# Altium integrated library TI Data Converters Analog to Digital Converter.IntLib: 2197 symbols (part 51 of 168)
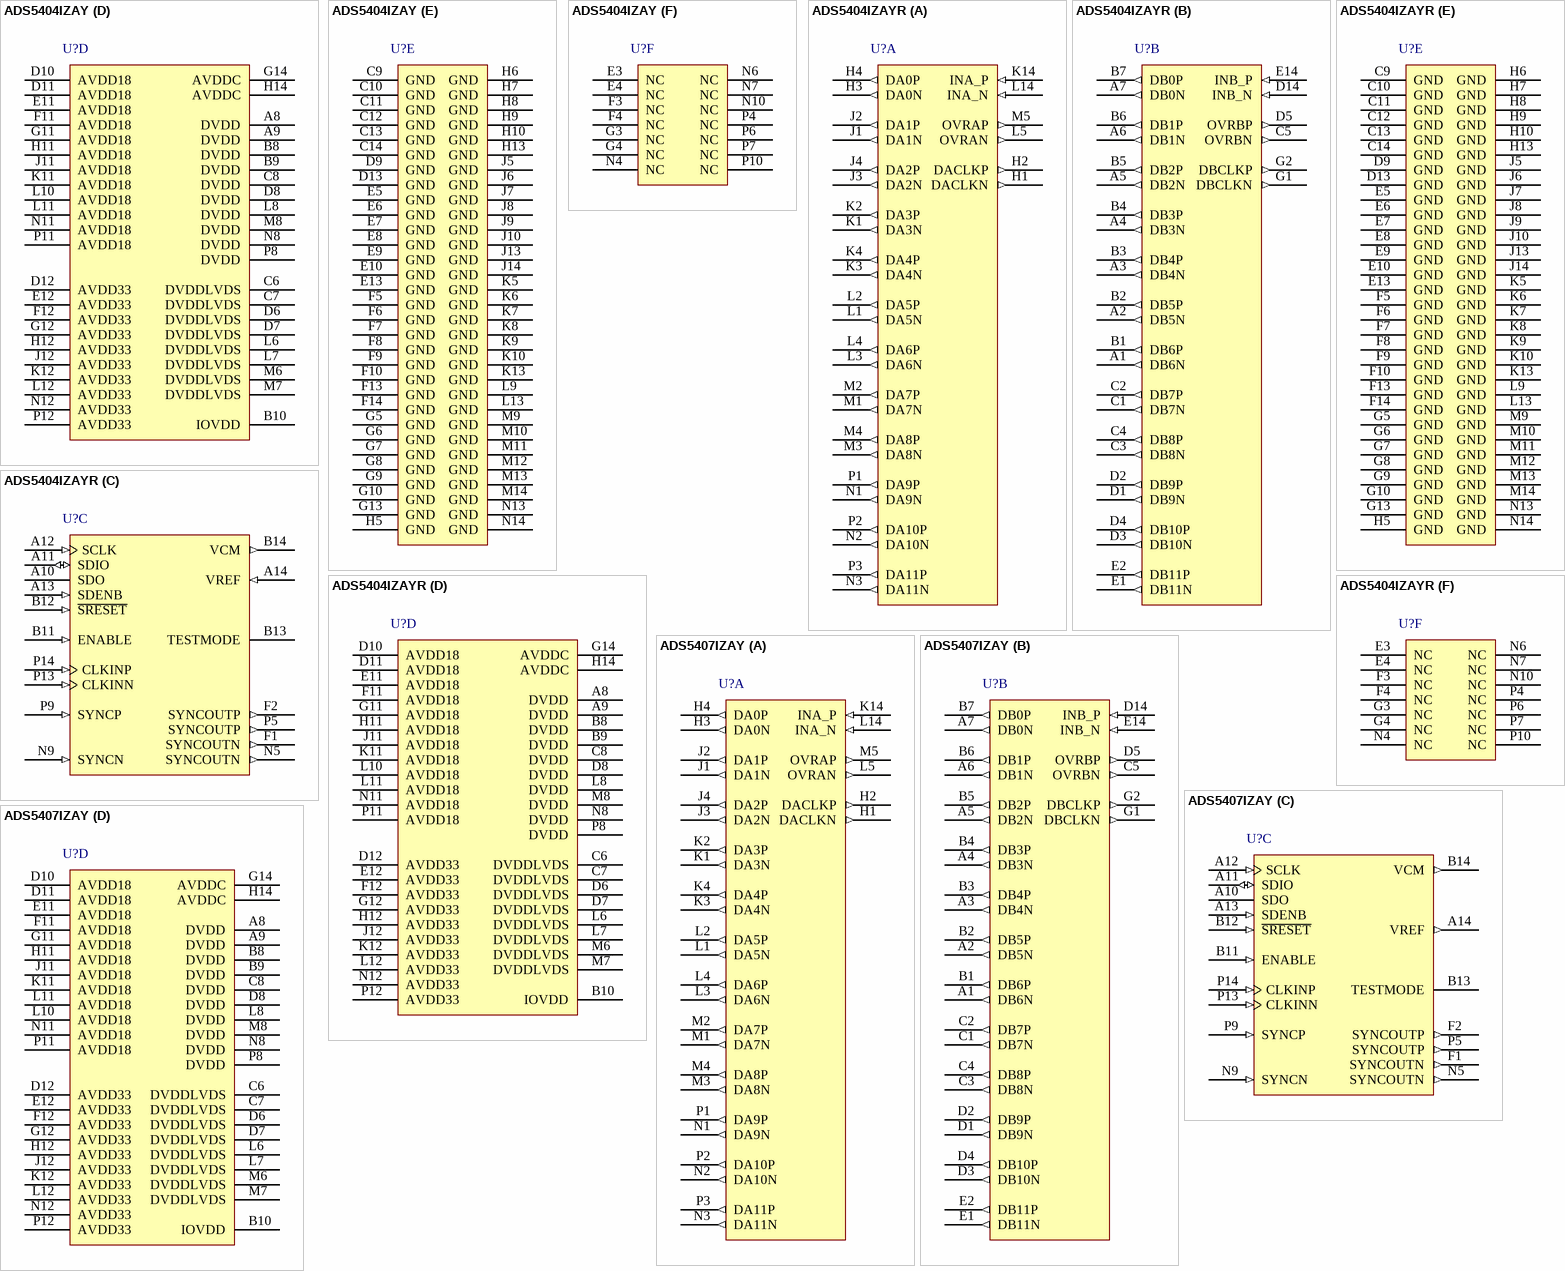
[diagram p176: symbols ADS5404IZAY to ADS5407IZAY]

## ADS5404IZAY
designator U?
Dual Channel 12-Bit 500 MSPS ADC, -40 to 85 degC, 196-pin BGA (ZAY196), Green (RoHS & no Sb/Br); Manufacturer: Texas Instruments; PartNumber: ADS5404IZAY; # Input Channels: 2; Analog Voltage AV/DD(Max)(V): 3.45; Analog Voltage AV/DD(Min)(V): 3.15; Architecture: Pipeline; Digital Supply(Max)(V): 1.9; Digital Supply(Min)(V): 1.7; ENOB(Bits): 9.8; INL(Max)(+/-LSB): 5; Interface: DDR LVDS; Resolution(Bits): 12; Sample Rate(max)(SPS): 500M; SFDR(dB): 77; SINAD(dB): 60.5; SNR(dB): 60.6; SubFamily: High Speed ADC (>10MSPS); DatasheetVersion: SLAS945; PackageVersion: 4208324-4/C, 09/2010; PackageReference: ZAY196; PackageDescription: 196-Pin Plastic Ball Grid Array, Body 12 x 12 mm, Pitch 0.8 mm; Supplier 1: Digi-Key; Supplier Part Number 1: THS1206IDARG4-ND; Supplier 2: Mouser; Supplier Part Number 2: 595-THS1206IDARG4; Eco-Plan: Green (RoHS & no Sb/Br); Mounting Technology: Surface Mount; ComponentLink1Description: Manufacturer URL; ComponentLink1URL: http://www.ti.com/; ComponentLink2Description: Datasheet; ComponentLink2URL: http://www.ti.com/lit/ds/symlink/ads5404.pdf; ComponentLink3Description: Package Specification; ComponentLink3URL: http://www.ti.com/litv/pdf/mpbga11
footprint TI-ZAY196 (BGA, 196-Balls, Body 12x12mm, Pitch 0.8mm)
part A pins: H1 DACLKN (out) "DDR differential output data clock for Bus A. Register programmable to provide either rising or falling edge to center of stable data nominal timing.", H2 DACLKP (out) "DDR differential output data clock for Bus A. Register programmable to provide either rising or falling edge to center of stable data nominal timing.", H3 DA0N (out) "ADC A Data Bits 11 (MSB) to 0 (LSB) in DDR output mode. Standard LVDS output.", H4 DA0P (out) "ADC A Data Bits 11 (MSB) to 0 (LSB) in DDR output mode. Standard LVDS output.", J1 DA1N (out) "ADC A Data Bits 11 (MSB) to 0 (LSB) in DDR output mode. Standard LVDS output.", J2 DA1P (out) "ADC A Data Bits 11 (MSB) to 0 (LSB) in DDR output mode. Standard LVDS output.", J3 DA2N (out) "ADC A Data Bits 11 (MSB) to 0 (LSB) in DDR output mode. Standard LVDS output.", J4 DA2P (out) "ADC A Data Bits 11 (MSB) to 0 (LSB) in DDR output mode. Standard LVDS output.", K1 DA3N (out) "ADC A Data Bits 11 (MSB) to 0 (LSB) in DDR output mode. Standard LVDS output.", K2 DA3P (out) "ADC A Data Bits 11 (MSB) to 0 (LSB) in DDR output mode. Standard LVDS output.", K3 DA4N (out) "ADC A Data Bits 11 (MSB) to 0 (LSB) in DDR output mode. Standard LVDS output.", K4 DA4P (out) "ADC A Data Bits 11 (MSB) to 0 (LSB) in DDR output mode. Standard LVDS output.", K14 INA_P (in) "Analog ADC A differential input signal.", L1 DA5N (out) "ADC A Data Bits 11 (MSB) to 0 (LSB) in DDR output mode. Standard LVDS output.", L2 DA5P (out) "ADC A Data Bits 11 (MSB) to 0 (LSB) in DDR output mode. Standard LVDS output.", L3 DA6N (out) "ADC A Data Bits 11 (MSB) to 0 (LSB) in DDR output mode. Standard LVDS output.", L4 DA6P (out) "ADC A Data Bits 11 (MSB) to 0 (LSB) in DDR output mode. Standard LVDS output.", L5 OVRAN (out) "Bus A, Overrange indicator, LVDS output. A logic high signals an analog input in excess of the full-scale range. Optional SYNC output.", L14 INA_N (in) "Analog ADC A differential input signal.", M1 DA7N (out) "ADC A Data Bits 11 (MSB) to 0 (LSB) in DDR output mode. Standard LVDS output.", M2 DA7P (out) "ADC A Data Bits 11 (MSB) to 0 (LSB) in DDR output mode. Standard LVDS output.", M3 DA8N (out) "ADC A Data Bits 11 (MSB) to 0 (LSB) in DDR output mode. Standard LVDS output.", M4 DA8P (out) "ADC A Data Bits 11 (MSB) to 0 (LSB) in DDR output mode. Standard LVDS output.", M5 OVRAP (out) "Bus A, Overrange indicator, LVDS output. A logic high signals an analog input in excess of the full-scale range. Optional SYNC output.", N1 DA9N (out) "ADC A Data Bits 11 (MSB) to 0 (LSB) in DDR output mode. Standard LVDS output.", N2 DA10N (out) "ADC A Data Bits 11 (MSB) to 0 (LSB) in DDR output mode. Standard LVDS output.", N3 DA11N (out) "ADC A Data Bits 11 (MSB) to 0 (LSB) in DDR output mode. Standard LVDS output.", P1 DA9P (out) "ADC A Data Bits 11 (MSB) to 0 (LSB) in DDR output mode. Standard LVDS output.", P2 DA10P (out) "ADC A Data Bits 11 (MSB) to 0 (LSB) in DDR output mode. Standard LVDS output.", P3 DA11P (out) "ADC A Data Bits 11 (MSB) to 0 (LSB) in DDR output mode. Standard LVDS output."
part B pins: A1 DB6N (out) "ADC B Data Bits 11 (MSB) to 0 (LSB) in DDR output mode. Standard LVDS output.", A2 DB5N (out) "ADC B Data Bits 11 (MSB) to 0 (LSB) in DDR output mode. Standard LVDS output.", A3 DB4N (out) "ADC B Data Bits 11 (MSB) to 0 (LSB) in DDR output mode. Standard LVDS output.", A4 DB3N (out) "ADC B Data Bits 11 (MSB) to 0 (LSB) in DDR output mode. Standard LVDS output.", A5 DB2N (out) "ADC B Data Bits 11 (MSB) to 0 (LSB) in DDR output mode. Standard LVDS output.", A6 DB1N (out) "ADC B Data Bits 11 (MSB) to 0 (LSB) in DDR output mode. Standard LVDS output.", A7 DB0N (out) "ADC B Data Bits 11 (MSB) to 0 (LSB) in DDR output mode. Standard LVDS output.", B1 DB6P (out) "ADC B Data Bits 11 (MSB) to 0 (LSB) in DDR output mode. Standard LVDS output.", B2 DB5P (out) "ADC B Data Bits 11 (MSB) to 0 (LSB) in DDR output mode. Standard LVDS output.", B3 DB4P (out) "ADC B Data Bits 11 (MSB) to 0 (LSB) in DDR output mode. Standard LVDS output.", B4 DB3P (out) "ADC B Data Bits 11 (MSB) to 0 (LSB) in DDR output mode. Standard LVDS output.", B5 DB2P (out) "ADC B Data Bits 11 (MSB) to 0 (LSB) in DDR output mode. Standard LVDS output.", B6 DB1P (out) "ADC B Data Bits 11 (MSB) to 0 (LSB) in DDR output mode. Standard LVDS output.", B7 DB0P (out) "ADC B Data Bits 11 (MSB) to 0 (LSB) in DDR output mode. Standard LVDS output.", C1 DB7N (out) "ADC B Data Bits 11 (MSB) to 0 (LSB) in DDR output mode. Standard LVDS output.", C2 DB7P (out) "ADC B Data Bits 11 (MSB) to 0 (LSB) in DDR output mode. Standard LVDS output.", C3 DB8N (out) "ADC B Data Bits 11 (MSB) to 0 (LSB) in DDR output mode. Standard LVDS output.", C4 DB8P (out) "ADC B Data Bits 11 (MSB) to 0 (LSB) in DDR output mode. Standard LVDS output.", C5 OVRBN (out) "Bus B, Overrange indicator, LVDS output. A logic high signals an analog input in excess of the full-scale range. Optional SYNC output.", D1 DB9N (out) "ADC B Data Bits 11 (MSB) to 0 (LSB) in DDR output mode. Standard LVDS output.", D2 DB9P (out) "ADC B Data Bits 11 (MSB) to 0 (LSB) in DDR output mode. Standard LVDS output.", D3 DB10N (out) "ADC B Data Bits 11 (MSB) to 0 (LSB) in DDR output mode. Standard LVDS output.", D4 DB10P (out) "ADC B Data Bits 11 (MSB) to 0 (LSB) in DDR output mode. Standard LVDS output.", D5 OVRBP (out) "Bus B, Overrange indicator, LVDS output. A logic high signals an analog input in excess of the full-scale range. Optional SYNC output.", D14 INB_N (in) "Analog ADC B differential input signal.", E1 DB11N (out) "ADC B Data Bits 11 (MSB) to 0 (LSB) in DDR output mode. Standard LVDS output.", E2 DB11P (out) "ADC B Data Bits 11 (MSB) to 0 (LSB) in DDR output mode. Standard LVDS output.", E14 INB_P (in) "Analog ADC B differential input signal.", G1 DBCLKN (out) "DDR differential output data clock for Bus B. Register programmable to provide either rising or falling edge to center of stable data nominal timing. Optionally Bus B can be latched with DACLKP/N.", G2 DBCLKP (out) "DDR differential output data clock for Bus B. Register programmable to provide either rising or falling edge to center of stable data nominal timing. Optionally Bus B can be latched with DACLKP/N."
part C pins: A10 SDO (hiz) "Uni-directional serial interface data in 4 pin mode (register x00, D16). The SDO pin is tri- stated in 3-pin interface mode (default). Internal 50kohm pull-down resistor.", A11 SDIO (io) "Bi-directional serial data in 3 pin mode (default). In 4-pin interface mode (register x00, D16), the SDIO pin in an input only. Internal 50kohm pull-down.", A12 SCLK (in) "Serial interface clock. Internal 50kohm pull-down resistor.", A13 SDENB (in) "Serial interface enable. Internal 50kohm pull-down resistor.", A14 VREF (in) "Reference voltage input. A 0.1uF capacitor to AGND is recommended, but not required.", B11 ENABLE (in) "Chip enable - active high. Power down function can be controlled through SPI register assignment. Internal 50kohm pull up resistor to IOVDD.", B12 ~{SRESET} (in) "Serial interface reset input. Active low. Initialized internal registers during high to low transition. Asynchronous. Internal 50kohm pull up resistor to IOVDD.", B13 TESTMODE "Factory internal test, do not connect", B14 VCM (out) "Output of the analog input common mode (nominally 1.9V). A 0.1uF capacitor to AGND is recommended.", F1 SYNCOUTN (out) "Synchronization output signal for synchronizing multiple ADCs. Can be disabled via SPI.", F2 SYNCOUTP (out) "Synchronization output signal for synchronizing multiple ADCs. Can be disabled via SPI.", N5 SYNCOUTN (out) "Synchronization output signal for synchronizing multiple ADCs. Can be disabled via SPI.", N9 SYNCN (in) "Synchronization input. Inactive if logic low. When clocked in a high state initially, this is used for resetting internal clocks and digital logic and starting the SYNCOUT signal. Internal 100ohm termination.", P5 SYNCOUTP (out) "Synchronization output signal for synchronizing multiple ADCs. Can be disabled via SPI.", P9 SYNCP (in) "Synchronization input. Inactive if logic low. When clocked in a high state initially, this is used for resetting internal clocks and digital logic and starting the SYNCOUT signal. Internal 100ohm termination.", P13 CLKINN (in) "Differential input clock", P14 CLKINP (in) "Differential input clock"
part D pins: A8 DVDD (power) "1.8V supply for digital block", A9 DVDD (power) "1.8V supply for digital block", B8 DVDD (power) "1.8V supply for digital block", B9 DVDD (power) "1.8V supply for digital block", B10 IOVDD (power) "1.8V for digital I/Os", C6 DVDDLVDS (power) "1.8V supply for LVDS outputs", C7 DVDDLVDS (power) "1.8V supply for LVDS outputs", C8 DVDD (power) "1.8V supply for digital block", D6 DVDDLVDS (power) "1.8V supply for LVDS outputs", D7 DVDDLVDS (power) "1.8V supply for LVDS outputs", D8 DVDD (power) "1.8V supply for digital block", D10 AVDD18 (power) "1.8V analog supply", D11 AVDD18 (power) "1.8V analog supply", D12 AVDD33 (power) "3.3V analog supply", E11 AVDD18 (power) "1.8V analog supply", E12 AVDD33 (power) "3.3V analog supply", F11 AVDD18 (power) "1.8V analog supply", F12 AVDD33 (power) "3.3V analog supply", G11 AVDD18 (power) "1.8V analog supply", G12 AVDD33 (power) "3.3V analog supply", G14 AVDDC (power) "1.8V supply for clock input", H11 AVDD18 (power) "1.8V analog supply", H12 AVDD33 (power) "3.3V analog supply", H14 AVDDC (power) "1.8V supply for clock input", J11 AVDD18 (power) "1.8V analog supply", J12 AVDD33 (power) "3.3V analog supply", K11 AVDD18 (power) "1.8V analog supply", K12 AVDD33 (power) "3.3V analog supply", L6 DVDDLVDS (power) "1.8V supply for LVDS outputs", L7 DVDDLVDS (power) "1.8V supply for LVDS outputs", L8 DVDD (power) "1.8V supply for digital block", L10 AVDD18 (power) "1.8V analog supply", L11 AVDD18 (power) "1.8V analog supply", L12 AVDD33 (power) "3.3V analog supply", M6 DVDDLVDS (power) "1.8V supply for LVDS outputs", M7 DVDDLVDS (power) "1.8V supply for LVDS outputs", M8 DVDD (power) "1.8V supply for digital block", N8 DVDD (power) "1.8V supply for digital block", N11 AVDD18 (power) "1.8V analog supply", N12 AVDD33 (power) "3.3V analog supply", P8 DVDD (power) "1.8V supply for digital block", P11 AVDD18 (power) "1.8V analog supply", P12 AVDD33 (power) "3.3V analog supply"
part E pins: C9 GND (power) "Ground", C10 GND (power) "Ground", C11 GND (power) "Ground", C12 GND (power) "Ground", C13 GND (power) "Ground", C14 GND (power) "Ground", D9 GND (power) "Ground", D13 GND (power) "Ground", E5 GND (power) "Ground", E6 GND (power) "Ground", E7 GND (power) "Ground", E8 GND (power) "Ground", E9 GND (power) "Ground", E10 GND (power) "Ground", E13 GND (power) "Ground", F5 GND (power) "Ground", F6 GND (power) "Ground", F7 GND (power) "Ground", F8 GND (power) "Ground", F9 GND (power) "Ground", F10 GND (power) "Ground", F13 GND (power) "Ground", F14 GND (power) "Ground", G5 GND (power) "Ground", G6 GND (power) "Ground", G7 GND (power) "Ground", G8 GND (power) "Ground", G9 GND (power) "Ground", G10 GND (power) "Ground", G13 GND (power) "Ground", H5 GND (power) "Ground", H6 GND (power) "Ground", H7 GND (power) "Ground", H8 GND (power) "Ground", H9 GND (power) "Ground", H10 GND (power) "Ground", H13 GND (power) "Ground", J5 GND (power) "Ground", J6 GND (power) "Ground", J7 GND (power) "Ground", J8 GND (power) "Ground", J9 GND (power) "Ground", J10 GND (power) "Ground", J13 GND (power) "Ground", J14 GND (power) "Ground", K5 GND (power) "Ground", K6 GND (power) "Ground", K7 GND (power) "Ground", K8 GND (power) "Ground", K9 GND (power) "Ground", K10 GND (power) "Ground", K13 GND (power) "Ground", L9 GND (power) "Ground", L13 GND (power) "Ground", M9 GND (power) "Ground", M10 GND (power) "Ground", M11 GND (power) "Ground", M12 GND (power) "Ground", M13 GND (power) "Ground", M14 GND (power) "Ground", N13 GND (power) "Ground", N14 GND (power) "Ground"
part F pins: E3 NC "Don’t connect to pin", E4 NC "Don’t connect to pin", F3 NC "Don’t connect to pin", F4 NC "Don’t connect to pin", G3 NC "Don’t connect to pin", G4 NC "Don’t connect to pin", N4 NC "Don’t connect to pin", N6 NC "Don’t connect to pin", N7 NC "Don’t connect to pin", N10 NC "Don’t connect to pin", P4 NC "Don’t connect to pin", P6 NC "Don’t connect to pin", P7 NC "Don’t connect to pin", P10 NC "Don’t connect to pin"

## ADS5404IZAYR
designator U?
Dual Channel 12-Bit 500 MSPS ADC, -40 to 85 degC, 196-pin BGA (ZAY196), Green (RoHS & no Sb/Br); Manufacturer: Texas Instruments; PartNumber: ADS5404IZAYR; # Input Channels: 2; Analog Voltage AV/DD(Max)(V): 3.45; Analog Voltage AV/DD(Min)(V): 3.15; Architecture: Pipeline; Digital Supply(Max)(V): 1.9; Digital Supply(Min)(V): 1.7; ENOB(Bits): 9.8; INL(Max)(+/-LSB): 5; Interface: DDR LVDS; Resolution(Bits): 12; Sample Rate(max)(SPS): 500M; SFDR(dB): 77; SINAD(dB): 60.5; SNR(dB): 60.6; SubFamily: High Speed ADC (>10MSPS); DatasheetVersion: SLAS945; PackageVersion: 4208324-4/C, 09/2010; PackageReference: ZAY196; PackageDescription: 196-Pin Plastic Ball Grid Array, Body 12 x 12 mm, Pitch 0.8 mm; Supplier 1: Digi-Key; Supplier Part Number 1: THS1206QDA-ND; Supplier 2: Mouser; Supplier Part Number 2: 595-THS1206QDA; Eco-Plan: Green (RoHS & no Sb/Br); Mounting Technology: Surface Mount; ComponentLink1Description: Manufacturer URL; ComponentLink1URL: http://www.ti.com/; ComponentLink2Description: Datasheet; ComponentLink2URL: http://www.ti.com/lit/ds/symlink/ads5404.pdf; ComponentLink3Description: Package Specification; ComponentLink3URL: http://www.ti.com/litv/pdf/mpbga11
footprint TI-ZAY196 (BGA, 196-Balls, Body 12x12mm, Pitch 0.8mm)
part A pins: H1 DACLKN (out) "DDR differential output data clock for Bus A. Register programmable to provide either rising or falling edge to center of stable data nominal timing.", H2 DACLKP (out) "DDR differential output data clock for Bus A. Register programmable to provide either rising or falling edge to center of stable data nominal timing.", H3 DA0N (out) "ADC A Data Bits 11 (MSB) to 0 (LSB) in DDR output mode. Standard LVDS output.", H4 DA0P (out) "ADC A Data Bits 11 (MSB) to 0 (LSB) in DDR output mode. Standard LVDS output.", J1 DA1N (out) "ADC A Data Bits 11 (MSB) to 0 (LSB) in DDR output mode. Standard LVDS output.", J2 DA1P (out) "ADC A Data Bits 11 (MSB) to 0 (LSB) in DDR output mode. Standard LVDS output.", J3 DA2N (out) "ADC A Data Bits 11 (MSB) to 0 (LSB) in DDR output mode. Standard LVDS output.", J4 DA2P (out) "ADC A Data Bits 11 (MSB) to 0 (LSB) in DDR output mode. Standard LVDS output.", K1 DA3N (out) "ADC A Data Bits 11 (MSB) to 0 (LSB) in DDR output mode. Standard LVDS output.", K2 DA3P (out) "ADC A Data Bits 11 (MSB) to 0 (LSB) in DDR output mode. Standard LVDS output.", K3 DA4N (out) "ADC A Data Bits 11 (MSB) to 0 (LSB) in DDR output mode. Standard LVDS output.", K4 DA4P (out) "ADC A Data Bits 11 (MSB) to 0 (LSB) in DDR output mode. Standard LVDS output.", K14 INA_P (in) "Analog ADC A differential input signal.", L1 DA5N (out) "ADC A Data Bits 11 (MSB) to 0 (LSB) in DDR output mode. Standard LVDS output.", L2 DA5P (out) "ADC A Data Bits 11 (MSB) to 0 (LSB) in DDR output mode. Standard LVDS output.", L3 DA6N (out) "ADC A Data Bits 11 (MSB) to 0 (LSB) in DDR output mode. Standard LVDS output.", L4 DA6P (out) "ADC A Data Bits 11 (MSB) to 0 (LSB) in DDR output mode. Standard LVDS output.", L5 OVRAN (out) "Bus A, Overrange indicator, LVDS output. A logic high signals an analog input in excess of the full-scale range. Optional SYNC output.", L14 INA_N (in) "Analog ADC A differential input signal.", M1 DA7N (out) "ADC A Data Bits 11 (MSB) to 0 (LSB) in DDR output mode. Standard LVDS output.", M2 DA7P (out) "ADC A Data Bits 11 (MSB) to 0 (LSB) in DDR output mode. Standard LVDS output.", M3 DA8N (out) "ADC A Data Bits 11 (MSB) to 0 (LSB) in DDR output mode. Standard LVDS output.", M4 DA8P (out) "ADC A Data Bits 11 (MSB) to 0 (LSB) in DDR output mode. Standard LVDS output.", M5 OVRAP (out) "Bus A, Overrange indicator, LVDS output. A logic high signals an analog input in excess of the full-scale range. Optional SYNC output.", N1 DA9N (out) "ADC A Data Bits 11 (MSB) to 0 (LSB) in DDR output mode. Standard LVDS output.", N2 DA10N (out) "ADC A Data Bits 11 (MSB) to 0 (LSB) in DDR output mode. Standard LVDS output.", N3 DA11N (out) "ADC A Data Bits 11 (MSB) to 0 (LSB) in DDR output mode. Standard LVDS output.", P1 DA9P (out) "ADC A Data Bits 11 (MSB) to 0 (LSB) in DDR output mode. Standard LVDS output.", P2 DA10P (out) "ADC A Data Bits 11 (MSB) to 0 (LSB) in DDR output mode. Standard LVDS output.", P3 DA11P (out) "ADC A Data Bits 11 (MSB) to 0 (LSB) in DDR output mode. Standard LVDS output."
part B pins: A1 DB6N (out) "ADC B Data Bits 11 (MSB) to 0 (LSB) in DDR output mode. Standard LVDS output.", A2 DB5N (out) "ADC B Data Bits 11 (MSB) to 0 (LSB) in DDR output mode. Standard LVDS output.", A3 DB4N (out) "ADC B Data Bits 11 (MSB) to 0 (LSB) in DDR output mode. Standard LVDS output.", A4 DB3N (out) "ADC B Data Bits 11 (MSB) to 0 (LSB) in DDR output mode. Standard LVDS output.", A5 DB2N (out) "ADC B Data Bits 11 (MSB) to 0 (LSB) in DDR output mode. Standard LVDS output.", A6 DB1N (out) "ADC B Data Bits 11 (MSB) to 0 (LSB) in DDR output mode. Standard LVDS output.", A7 DB0N (out) "ADC B Data Bits 11 (MSB) to 0 (LSB) in DDR output mode. Standard LVDS output.", B1 DB6P (out) "ADC B Data Bits 11 (MSB) to 0 (LSB) in DDR output mode. Standard LVDS output.", B2 DB5P (out) "ADC B Data Bits 11 (MSB) to 0 (LSB) in DDR output mode. Standard LVDS output.", B3 DB4P (out) "ADC B Data Bits 11 (MSB) to 0 (LSB) in DDR output mode. Standard LVDS output.", B4 DB3P (out) "ADC B Data Bits 11 (MSB) to 0 (LSB) in DDR output mode. Standard LVDS output.", B5 DB2P (out) "ADC B Data Bits 11 (MSB) to 0 (LSB) in DDR output mode. Standard LVDS output.", B6 DB1P (out) "ADC B Data Bits 11 (MSB) to 0 (LSB) in DDR output mode. Standard LVDS output.", B7 DB0P (out) "ADC B Data Bits 11 (MSB) to 0 (LSB) in DDR output mode. Standard LVDS output.", C1 DB7N (out) "ADC B Data Bits 11 (MSB) to 0 (LSB) in DDR output mode. Standard LVDS output.", C2 DB7P (out) "ADC B Data Bits 11 (MSB) to 0 (LSB) in DDR output mode. Standard LVDS output.", C3 DB8N (out) "ADC B Data Bits 11 (MSB) to 0 (LSB) in DDR output mode. Standard LVDS output.", C4 DB8P (out) "ADC B Data Bits 11 (MSB) to 0 (LSB) in DDR output mode. Standard LVDS output.", C5 OVRBN (out) "Bus B, Overrange indicator, LVDS output. A logic high signals an analog input in excess of the full-scale range. Optional SYNC output.", D1 DB9N (out) "ADC B Data Bits 11 (MSB) to 0 (LSB) in DDR output mode. Standard LVDS output.", D2 DB9P (out) "ADC B Data Bits 11 (MSB) to 0 (LSB) in DDR output mode. Standard LVDS output.", D3 DB10N (out) "ADC B Data Bits 11 (MSB) to 0 (LSB) in DDR output mode. Standard LVDS output.", D4 DB10P (out) "ADC B Data Bits 11 (MSB) to 0 (LSB) in DDR output mode. Standard LVDS output.", D5 OVRBP (out) "Bus B, Overrange indicator, LVDS output. A logic high signals an analog input in excess of the full-scale range. Optional SYNC output.", D14 INB_N (in) "Analog ADC B differential input signal.", E1 DB11N (out) "ADC B Data Bits 11 (MSB) to 0 (LSB) in DDR output mode. Standard LVDS output.", E2 DB11P (out) "ADC B Data Bits 11 (MSB) to 0 (LSB) in DDR output mode. Standard LVDS output.", E14 INB_P (in) "Analog ADC B differential input signal.", G1 DBCLKN (out) "DDR differential output data clock for Bus B. Register programmable to provide either rising or falling edge to center of stable data nominal timing. Optionally Bus B can be latched with DACLKP/N.", G2 DBCLKP (out) "DDR differential output data clock for Bus B. Register programmable to provide either rising or falling edge to center of stable data nominal timing. Optionally Bus B can be latched with DACLKP/N."
part C pins: A10 SDO (hiz) "Uni-directional serial interface data in 4 pin mode (register x00, D16). The SDO pin is tri- stated in 3-pin interface mode (default). Internal 50kohm pull-down resistor.", A11 SDIO (io) "Bi-directional serial data in 3 pin mode (default). In 4-pin interface mode (register x00, D16), the SDIO pin in an input only. Internal 50kohm pull-down.", A12 SCLK (in) "Serial interface clock. Internal 50kohm pull-down resistor.", A13 SDENB (in) "Serial interface enable. Internal 50kohm pull-down resistor.", A14 VREF (in) "Reference voltage input. A 0.1uF capacitor to AGND is recommended, but not required.", B11 ENABLE (in) "Chip enable - active high. Power down function can be controlled through SPI register assignment. Internal 50kohm pull up resistor to IOVDD.", B12 ~{SRESET} (in) "Serial interface reset input. Active low. Initialized internal registers during high to low transition. Asynchronous. Internal 50kohm pull up resistor to IOVDD.", B13 TESTMODE "Factory internal test, do not connect", B14 VCM (out) "Output of the analog input common mode (nominally 1.9V). A 0.1uF capacitor to AGND is recommended.", F1 SYNCOUTN (out) "Synchronization output signal for synchronizing multiple ADCs. Can be disabled via SPI.", F2 SYNCOUTP (out) "Synchronization output signal for synchronizing multiple ADCs. Can be disabled via SPI.", N5 SYNCOUTN (out) "Synchronization output signal for synchronizing multiple ADCs. Can be disabled via SPI.", N9 SYNCN (in) "Synchronization input. Inactive if logic low. When clocked in a high state initially, this is used for resetting internal clocks and digital logic and starting the SYNCOUT signal. Internal 100ohm termination.", P5 SYNCOUTP (out) "Synchronization output signal for synchronizing multiple ADCs. Can be disabled via SPI.", P9 SYNCP (in) "Synchronization input. Inactive if logic low. When clocked in a high state initially, this is used for resetting internal clocks and digital logic and starting the SYNCOUT signal. Internal 100ohm termination.", P13 CLKINN (in) "Differential input clock", P14 CLKINP (in) "Differential input clock"
part D pins: A8 DVDD (power) "1.8V supply for digital block", A9 DVDD (power) "1.8V supply for digital block", B8 DVDD (power) "1.8V supply for digital block", B9 DVDD (power) "1.8V supply for digital block", B10 IOVDD (power) "1.8V for digital I/Os", C6 DVDDLVDS (power) "1.8V supply for LVDS outputs", C7 DVDDLVDS (power) "1.8V supply for LVDS outputs", C8 DVDD (power) "1.8V supply for digital block", D6 DVDDLVDS (power) "1.8V supply for LVDS outputs", D7 DVDDLVDS (power) "1.8V supply for LVDS outputs", D8 DVDD (power) "1.8V supply for digital block", D10 AVDD18 (power) "1.8V analog supply", D11 AVDD18 (power) "1.8V analog supply", D12 AVDD33 (power) "3.3V analog supply", E11 AVDD18 (power) "1.8V analog supply", E12 AVDD33 (power) "3.3V analog supply", F11 AVDD18 (power) "1.8V analog supply", F12 AVDD33 (power) "3.3V analog supply", G11 AVDD18 (power) "1.8V analog supply", G12 AVDD33 (power) "3.3V analog supply", G14 AVDDC (power) "1.8V supply for clock input", H11 AVDD18 (power) "1.8V analog supply", H12 AVDD33 (power) "3.3V analog supply", H14 AVDDC (power) "1.8V supply for clock input", J11 AVDD18 (power) "1.8V analog supply", J12 AVDD33 (power) "3.3V analog supply", K11 AVDD18 (power) "1.8V analog supply", K12 AVDD33 (power) "3.3V analog supply", L6 DVDDLVDS (power) "1.8V supply for LVDS outputs", L7 DVDDLVDS (power) "1.8V supply for LVDS outputs", L8 DVDD (power) "1.8V supply for digital block", L10 AVDD18 (power) "1.8V analog supply", L11 AVDD18 (power) "1.8V analog supply", L12 AVDD33 (power) "3.3V analog supply", M6 DVDDLVDS (power) "1.8V supply for LVDS outputs", M7 DVDDLVDS (power) "1.8V supply for LVDS outputs", M8 DVDD (power) "1.8V supply for digital block", N8 DVDD (power) "1.8V supply for digital block", N11 AVDD18 (power) "1.8V analog supply", N12 AVDD33 (power) "3.3V analog supply", P8 DVDD (power) "1.8V supply for digital block", P11 AVDD18 (power) "1.8V analog supply", P12 AVDD33 (power) "3.3V analog supply"
part E pins: C9 GND (power) "Ground", C10 GND (power) "Ground", C11 GND (power) "Ground", C12 GND (power) "Ground", C13 GND (power) "Ground", C14 GND (power) "Ground", D9 GND (power) "Ground", D13 GND (power) "Ground", E5 GND (power) "Ground", E6 GND (power) "Ground", E7 GND (power) "Ground", E8 GND (power) "Ground", E9 GND (power) "Ground", E10 GND (power) "Ground", E13 GND (power) "Ground", F5 GND (power) "Ground", F6 GND (power) "Ground", F7 GND (power) "Ground", F8 GND (power) "Ground", F9 GND (power) "Ground", F10 GND (power) "Ground", F13 GND (power) "Ground", F14 GND (power) "Ground", G5 GND (power) "Ground", G6 GND (power) "Ground", G7 GND (power) "Ground", G8 GND (power) "Ground", G9 GND (power) "Ground", G10 GND (power) "Ground", G13 GND (power) "Ground", H5 GND (power) "Ground", H6 GND (power) "Ground", H7 GND (power) "Ground", H8 GND (power) "Ground", H9 GND (power) "Ground", H10 GND (power) "Ground", H13 GND (power) "Ground", J5 GND (power) "Ground", J6 GND (power) "Ground", J7 GND (power) "Ground", J8 GND (power) "Ground", J9 GND (power) "Ground", J10 GND (power) "Ground", J13 GND (power) "Ground", J14 GND (power) "Ground", K5 GND (power) "Ground", K6 GND (power) "Ground", K7 GND (power) "Ground", K8 GND (power) "Ground", K9 GND (power) "Ground", K10 GND (power) "Ground", K13 GND (power) "Ground", L9 GND (power) "Ground", L13 GND (power) "Ground", M9 GND (power) "Ground", M10 GND (power) "Ground", M11 GND (power) "Ground", M12 GND (power) "Ground", M13 GND (power) "Ground", M14 GND (power) "Ground", N13 GND (power) "Ground", N14 GND (power) "Ground"
part F pins: E3 NC "Don’t connect to pin", E4 NC "Don’t connect to pin", F3 NC "Don’t connect to pin", F4 NC "Don’t connect to pin", G3 NC "Don’t connect to pin", G4 NC "Don’t connect to pin", N4 NC "Don’t connect to pin", N6 NC "Don’t connect to pin", N7 NC "Don’t connect to pin", N10 NC "Don’t connect to pin", P4 NC "Don’t connect to pin", P6 NC "Don’t connect to pin", P7 NC "Don’t connect to pin", P10 NC "Don’t connect to pin"

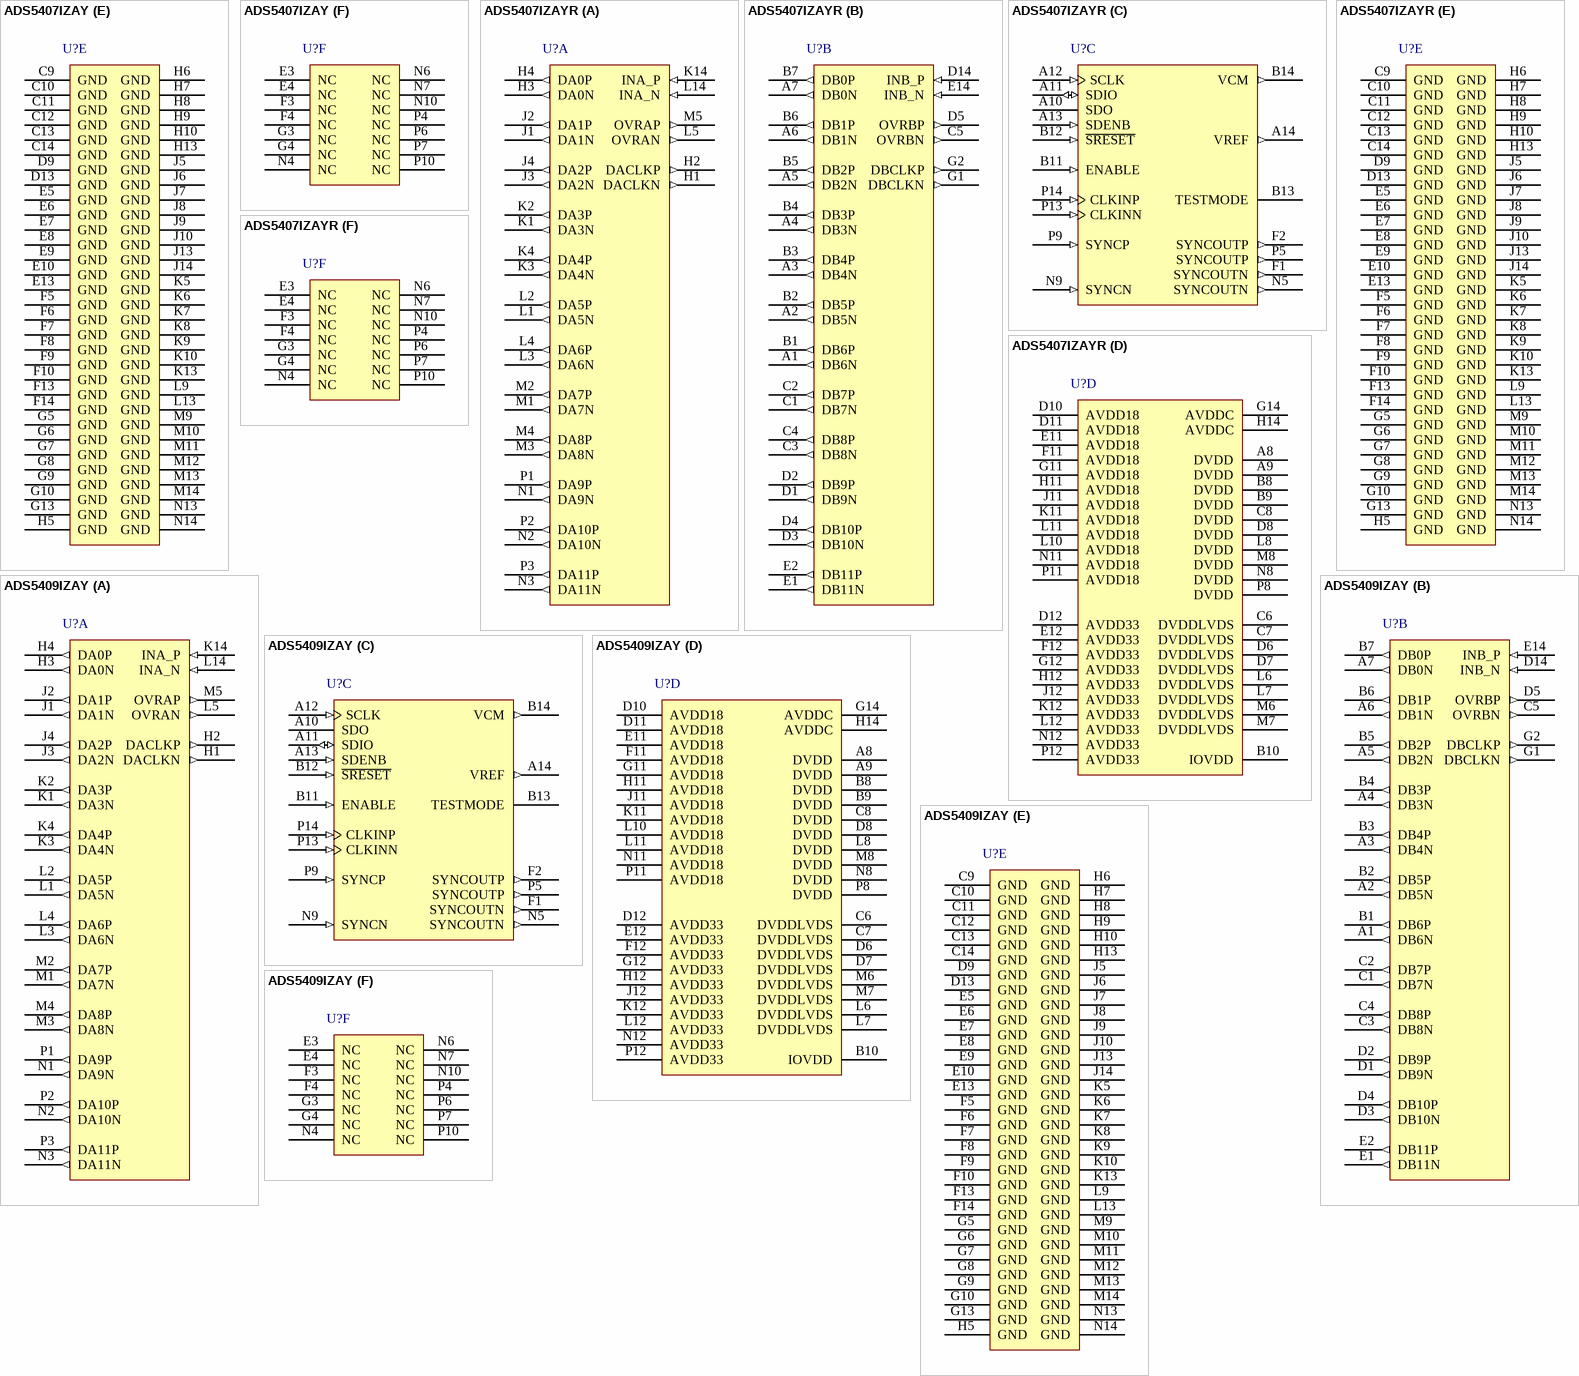
[diagram p49: symbols ADS5407IZAY to ADS5409IZAY]

## ADS5407IZAY
designator U?
Low Power 12-Bit 500 MSPS Dual ADC, -40 to 85 degC, 196-pin BGA (ZAY196), Green (RoHS & no Sb/Br); Manufacturer: Texas Instruments; PartNumber: ADS5407IZAY; # Input Channels: 2; Analog Voltage AV/DD(Max)(V): 3.45; Analog Voltage AV/DD(Min)(V): 3.15; Architecture: Pipeline; Digital Supply(Max)(V): 1.9; Digital Supply(Min)(V): 1.7; ENOB(Bits): 10.2; INL(Max)(+/-LSB): 5; Interface: DDR LVDS; Resolution(Bits): 12; Sample Rate(max)(SPS): 500M; SFDR(dB): 76; SINAD(dB): 63.1; SNR(dB): 63.5; SubFamily: High Speed ADC (>10MSPS); DatasheetVersion: SLAS934; PackageVersion: 4208324-4/C, 09/2010; PackageReference: ZAY196; PackageDescription: 196-Pin Plastic Ball Grid Array, Body 12 x 12 mm, Pitch 0.8 mm; Supplier 1: Digi-Key; Supplier Part Number 1: 296-18365-ND; Supplier 2: Newark; Supplier Part Number 2: 90H0459; Supplier 3: Mouser; Supplier Part Number 3: 595-ADS5413IPHP; Eco-Plan: Green (RoHS & no Sb/Br); Mounting Technology: Surface Mount; ComponentLink1Description: Manufacturer URL; ComponentLink1URL: http://www.ti.com/; ComponentLink2Description: Datasheet; ComponentLink2URL: http://www.ti.com/lit/ds/symlink/ads5407.pdf; ComponentLink3Description: Package Specification; ComponentLink3URL: http://www.ti.com/litv/pdf/mpbga11
footprint TI-ZAY196 (BGA, 196-Balls, Body 12x12mm, Pitch 0.8mm)
part A pins: H1 DACLKN (out) "DDR differential output data clock for Bus A. Register programmable to provide either rising or falling edge to center of stable data nominal timing.", H2 DACLKP (out) "DDR differential output data clock for Bus A. Register programmable to provide either rising or falling edge to center of stable data nominal timing.", H3 DA0N (out) "ADC A Data Bits 11 (MSB) to 0 (LSB) in DDR output mode. Standard LVDS output.", H4 DA0P (out) "ADC A Data Bits 11 (MSB) to 0 (LSB) in DDR output mode. Standard LVDS output.", J1 DA1N (out) "ADC A Data Bits 11 (MSB) to 0 (LSB) in DDR output mode. Standard LVDS output.", J2 DA1P (out) "ADC A Data Bits 11 (MSB) to 0 (LSB) in DDR output mode. Standard LVDS output.", J3 DA2N (out) "ADC A Data Bits 11 (MSB) to 0 (LSB) in DDR output mode. Standard LVDS output.", J4 DA2P (out) "ADC A Data Bits 11 (MSB) to 0 (LSB) in DDR output mode. Standard LVDS output.", K1 DA3N (out) "ADC A Data Bits 11 (MSB) to 0 (LSB) in DDR output mode. Standard LVDS output.", K2 DA3P (out) "ADC A Data Bits 11 (MSB) to 0 (LSB) in DDR output mode. Standard LVDS output.", K3 DA4N (out) "ADC A Data Bits 11 (MSB) to 0 (LSB) in DDR output mode. Standard LVDS output.", K4 DA4P (out) "ADC A Data Bits 11 (MSB) to 0 (LSB) in DDR output mode. Standard LVDS output.", K14 INA_P (in) "Analog ADC A differential input signal.", L1 DA5N (out) "ADC A Data Bits 11 (MSB) to 0 (LSB) in DDR output mode. Standard LVDS output.", L2 DA5P (out) "ADC A Data Bits 11 (MSB) to 0 (LSB) in DDR output mode. Standard LVDS output.", L3 DA6N (out) "ADC A Data Bits 11 (MSB) to 0 (LSB) in DDR output mode. Standard LVDS output.", L4 DA6P (out) "ADC A Data Bits 11 (MSB) to 0 (LSB) in DDR output mode. Standard LVDS output.", L5 OVRAN (out) "Bus A, Overrange indicator, LVDS output. A logic high signals an analog input in excess of the full-scale range. Optional SYNC output.", L14 INA_N (in) "Analog ADC A differential input signal.", M1 DA7N (out) "ADC A Data Bits 11 (MSB) to 0 (LSB) in DDR output mode. Standard LVDS output.", M2 DA7P (out) "ADC A Data Bits 11 (MSB) to 0 (LSB) in DDR output mode. Standard LVDS output.", M3 DA8N (out) "ADC A Data Bits 11 (MSB) to 0 (LSB) in DDR output mode. Standard LVDS output.", M4 DA8P (out) "ADC A Data Bits 11 (MSB) to 0 (LSB) in DDR output mode. Standard LVDS output.", M5 OVRAP (out) "Bus A, Overrange indicator, LVDS output. A logic high signals an analog input in excess of the full-scale range. Optional SYNC output.", N1 DA9N (out) "ADC A Data Bits 11 (MSB) to 0 (LSB) in DDR output mode. Standard LVDS output.", N2 DA10N (out) "ADC A Data Bits 11 (MSB) to 0 (LSB) in DDR output mode. Standard LVDS output.", N3 DA11N (out) "ADC A Data Bits 11 (MSB) to 0 (LSB) in DDR output mode. Standard LVDS output.", P1 DA9P (out) "ADC A Data Bits 11 (MSB) to 0 (LSB) in DDR output mode. Standard LVDS output.", P2 DA10P (out) "ADC A Data Bits 11 (MSB) to 0 (LSB) in DDR output mode. Standard LVDS output.", P3 DA11P (out) "ADC A Data Bits 11 (MSB) to 0 (LSB) in DDR output mode. Standard LVDS output."
part B pins: A1 DB6N (out) "ADC B Data Bits 11 (MSB) to 0 (LSB) in DDR output mode. Standard LVDS output.", A2 DB5N (out) "ADC B Data Bits 11 (MSB) to 0 (LSB) in DDR output mode. Standard LVDS output.", A3 DB4N (out) "ADC B Data Bits 11 (MSB) to 0 (LSB) in DDR output mode. Standard LVDS output.", A4 DB3N (out) "ADC B Data Bits 11 (MSB) to 0 (LSB) in DDR output mode. Standard LVDS output.", A5 DB2N (out) "ADC B Data Bits 11 (MSB) to 0 (LSB) in DDR output mode. Standard LVDS output.", A6 DB1N (out) "ADC B Data Bits 11 (MSB) to 0 (LSB) in DDR output mode. Standard LVDS output.", A7 DB0N (out) "ADC B Data Bits 11 (MSB) to 0 (LSB) in DDR output mode. Standard LVDS output.", B1 DB6P (out) "ADC B Data Bits 11 (MSB) to 0 (LSB) in DDR output mode. Standard LVDS output.", B2 DB5P (out) "ADC B Data Bits 11 (MSB) to 0 (LSB) in DDR output mode. Standard LVDS output.", B3 DB4P (out) "ADC B Data Bits 11 (MSB) to 0 (LSB) in DDR output mode. Standard LVDS output.", B4 DB3P (out) "ADC B Data Bits 11 (MSB) to 0 (LSB) in DDR output mode. Standard LVDS output.", B5 DB2P (out) "ADC B Data Bits 11 (MSB) to 0 (LSB) in DDR output mode. Standard LVDS output.", B6 DB1P (out) "ADC B Data Bits 11 (MSB) to 0 (LSB) in DDR output mode. Standard LVDS output.", B7 DB0P (out) "ADC B Data Bits 11 (MSB) to 0 (LSB) in DDR output mode. Standard LVDS output.", C1 DB7N (out) "ADC B Data Bits 11 (MSB) to 0 (LSB) in DDR output mode. Standard LVDS output.", C2 DB7P (out) "ADC B Data Bits 11 (MSB) to 0 (LSB) in DDR output mode. Standard LVDS output.", C3 DB8N (out) "ADC B Data Bits 11 (MSB) to 0 (LSB) in DDR output mode. Standard LVDS output.", C4 DB8P (out) "ADC B Data Bits 11 (MSB) to 0 (LSB) in DDR output mode. Standard LVDS output.", C5 OVRBN (out) "Bus B, Overrange indicator, LVDS output. A logic high signals an analog input in excess of the full-scale range. Optional SYNC output.", D1 DB9N (out) "ADC B Data Bits 11 (MSB) to 0 (LSB) in DDR output mode. Standard LVDS output.", D2 DB9P (out) "ADC B Data Bits 11 (MSB) to 0 (LSB) in DDR output mode. Standard LVDS output.", D3 DB10N (out) "ADC B Data Bits 11 (MSB) to 0 (LSB) in DDR output mode. Standard LVDS output.", D4 DB10P (out) "ADC B Data Bits 11 (MSB) to 0 (LSB) in DDR output mode. Standard LVDS output.", D5 OVRBP (out) "Bus B, Overrange indicator, LVDS output. A logic high signals an analog input in excess of the full-scale range. Optional SYNC output.", D14 INB_P (in) "Analog ADC B differential input signal.", E1 DB11N (out) "ADC B Data Bits 11 (MSB) to 0 (LSB) in DDR output mode. Standard LVDS output.", E2 DB11P (out) "ADC B Data Bits 11 (MSB) to 0 (LSB) in DDR output mode. Standard LVDS output.", E14 INB_N (in) "Analog ADC B differential input signal.", G1 DBCLKN (out) "DDR differential output data clock for Bus B. Register programmable to provide either rising or falling edge to center of stable data nominal timing. Optionally Bus B can be latched with DACLKP/N.", G2 DBCLKP (out) "DDR differential output data clock for Bus B. Register programmable to provide either rising or falling edge to center of stable data nominal timing. Optionally Bus B can be latched with DACLKP/N."
part C pins: A10 SDO (hiz) "Uni-directional serial interface data in 4 pin mode (register x00, D16). The SDO pin is tri- stated in 3-pin interface mode (default). Internal 50kohm pull-down resistor.", A11 SDIO (io) "Bi-directional serial data in 3 pin mode (default). In 4-pin interface mode (register x00, D16), the SDIO pin is an input only. Internal 50kohm pull-down.", A12 SCLK (in) "Serial interface clock. Internal 50kohm pull-down resistor.", A13 SDENB (in) "Serial interface enable. Internal 50kohm pull-down resistor.", A14 VREF (out) "Reference voltage output (2V nominal). A 0.1uF capacitor to AGND is recommended, but not required.", B11 ENABLE (in) "Chip enable - active high. Power down function can be controlled through SPI register assignment. Internal 50kohm pull up resistor to IOVDD.", B12 ~{SRESET} (in) "Serial interface reset input. Active low. Initialized internal registers during high to low transition. Asynchronous. Internal 50kohm pull up resistor to IOVDD.", B13 TESTMODE "Factory internal test, do not connect", B14 VCM (out) "Output of the analog input common mode (nominally 1.9V). A 0.1uF capacitor to AGND is recommended.", F1 SYNCOUTN (out) "Synchronization output signal for synchronizing multiple ADCs. Can be disabled via SPI.", F2 SYNCOUTP (out) "Synchronization output signal for synchronizing multiple ADCs. Can be disabled via SPI.", N5 SYNCOUTN (out) "Synchronization output signal for synchronizing multiple ADCs. Can be disabled via SPI.", N9 SYNCN (in) "Synchronization input. Inactive if logic low. When clocked in a high state initially, this is used for resetting internal clocks and digital logic and starting the SYNCOUT signal. Internal 100ohm termination.", P5 SYNCOUTP (out) "Synchronization output signal for synchronizing multiple ADCs. Can be disabled via SPI.", P9 SYNCP (in) "Synchronization input. Inactive if logic low. When clocked in a high state initially, this is used for resetting internal clocks and digital logic and starting the SYNCOUT signal. Internal 100ohm termination.", P13 CLKINN (in) "Differential input clock", P14 CLKINP (in) "Differential input clock"
part D pins: A8 DVDD (power) "1.8V supply for digital block", A9 DVDD (power) "1.8V supply for digital block", B8 DVDD (power) "1.8V supply for digital block", B9 DVDD (power) "1.8V supply for digital block", B10 IOVDD (power) "1.8V for digital I/Os", C6 DVDDLVDS (power) "1.8V supply for LVDS outputs", C7 DVDDLVDS (power) "1.8V supply for LVDS outputs", C8 DVDD (power) "1.8V supply for digital block", D6 DVDDLVDS (power) "1.8V supply for LVDS outputs", D7 DVDDLVDS (power) "1.8V supply for LVDS outputs", D8 DVDD (power) "1.8V supply for digital block", D10 AVDD18 (power) "1.8V analog supply", D11 AVDD18 (power) "1.8V analog supply", D12 AVDD33 (power) "3.3V analog supply", E11 AVDD18 (power) "1.8V analog supply", E12 AVDD33 (power) "3.3V analog supply", F11 AVDD18 (power) "1.8V analog supply", F12 AVDD33 (power) "3.3V analog supply", G11 AVDD18 (power) "1.8V analog supply", G12 AVDD33 (power) "3.3V analog supply", G14 AVDDC (power) "1.8V supply for clock input", H11 AVDD18 (power) "1.8V analog supply", H12 AVDD33 (power) "3.3V analog supply", H14 AVDDC (power) "1.8V supply for clock input", J11 AVDD18 (power) "1.8V analog supply", J12 AVDD33 (power) "3.3V analog supply", K11 AVDD18 (power) "1.8V analog supply", K12 AVDD33 (power) "3.3V analog supply", L6 DVDDLVDS (power) "1.8V supply for LVDS outputs", L7 DVDDLVDS (power) "1.8V supply for LVDS outputs", L8 DVDD (power) "1.8V supply for digital block", L10 AVDD18 (power) "1.8V analog supply", L11 AVDD18 (power) "1.8V analog supply", L12 AVDD33 (power) "3.3V analog supply", M6 DVDDLVDS (power) "1.8V supply for LVDS outputs", M7 DVDDLVDS (power) "1.8V supply for LVDS outputs", M8 DVDD (power) "1.8V supply for digital block", N8 DVDD (power) "1.8V supply for digital block", N11 AVDD18 (power) "1.8V analog supply", N12 AVDD33 (power) "3.3V analog supply", P8 DVDD (power) "1.8V supply for digital block", P11 AVDD18 (power) "1.8V analog supply", P12 AVDD33 (power) "3.3V analog supply"
part E pins: C9 GND (power) "Ground", C10 GND (power) "Ground", C11 GND (power) "Ground", C12 GND (power) "Ground", C13 GND (power) "Ground", C14 GND (power) "Ground", D9 GND (power) "Ground", D13 GND (power) "Ground", E5 GND (power) "Ground", E6 GND (power) "Ground", E7 GND (power) "Ground", E8 GND (power) "Ground", E9 GND (power) "Ground", E10 GND (power) "Ground", E13 GND (power) "Ground", F5 GND (power) "Ground", F6 GND (power) "Ground", F7 GND (power) "Ground", F8 GND (power) "Ground", F9 GND (power) "Ground", F10 GND (power) "Ground", F13 GND (power) "Ground", F14 GND (power) "Ground", G5 GND (power) "Ground", G6 GND (power) "Ground", G7 GND (power) "Ground", G8 GND (power) "Ground", G9 GND (power) "Ground", G10 GND (power) "Ground", G13 GND (power) "Ground", H5 GND (power) "Ground", H6 GND (power) "Ground", H7 GND (power) "Ground", H8 GND (power) "Ground", H9 GND (power) "Ground", H10 GND (power) "Ground", H13 GND (power) "Ground", J5 GND (power) "Ground", J6 GND (power) "Ground", J7 GND (power) "Ground", J8 GND (power) "Ground", J9 GND (power) "Ground", J10 GND (power) "Ground", J13 GND (power) "Ground", J14 GND (power) "Ground", K5 GND (power) "Ground", K6 GND (power) "Ground", K7 GND (power) "Ground", K8 GND (power) "Ground", K9 GND (power) "Ground", K10 GND (power) "Ground", K13 GND (power) "Ground", L9 GND (power) "Ground", L13 GND (power) "Ground", M9 GND (power) "Ground", M10 GND (power) "Ground", M11 GND (power) "Ground", M12 GND (power) "Ground", M13 GND (power) "Ground", M14 GND (power) "Ground", N13 GND (power) "Ground", N14 GND (power) "Ground"
part F pins: E3 NC "Don’t connect to pin", E4 NC "Don’t connect to pin", F3 NC "Don’t connect to pin", F4 NC "Don’t connect to pin", G3 NC "Don’t connect to pin", G4 NC "Don’t connect to pin", N4 NC "Don’t connect to pin", N6 NC "Don’t connect to pin", N7 NC "Don’t connect to pin", N10 NC "Don’t connect to pin", P4 NC "Don’t connect to pin", P6 NC "Don’t connect to pin", P7 NC "Don’t connect to pin", P10 NC "Don’t connect to pin"